# Altium footprint library Connectors.PcbLib: 147 footprints (part 2 of 10)
Each footprint in its own frame and in the unit in brackets; x right, y up, seen from the top. Pads: shape width x height; smd on the part's side, far side on the other; paste and mask are expansions set on the pad; w line width, h text height; cw(c..) or ccw(c..) is an arc to the next point about the centre after c.
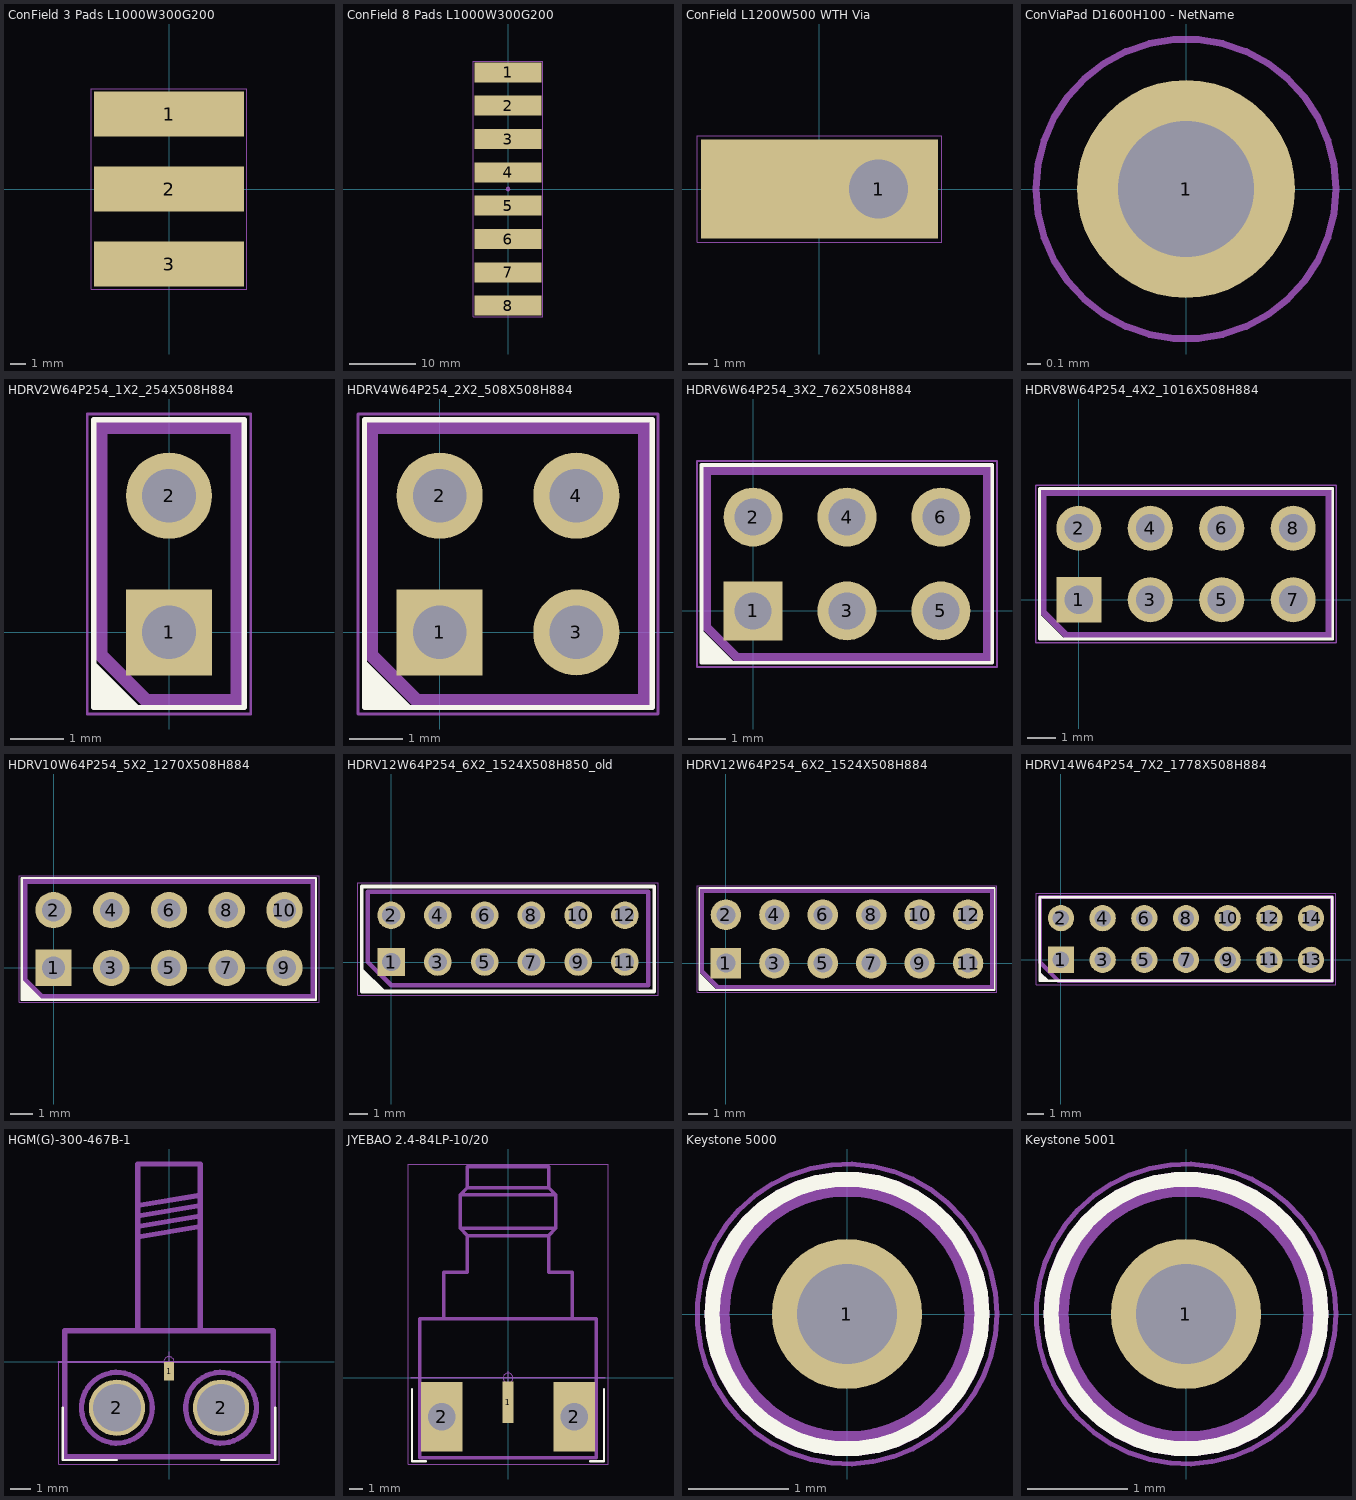
[diagram p1: the footprints below, top view; thin cyan lines are the x and y axes]

## ConField 3 Pads L1000W300G200 [mm] "Contact Field 3 Pads 10mm x 3 mm gap 2 mm"
pads (3):
  rect 10x3 smd paste-2539.97: 1(0,5) 2(0,0) 3(0,-5)
Top Overlay:
  text ".Net2" at 5.5,-0.474 h1.5
  text ".Net1" at 5.5,4.526 h1.5
  text ".Net3" at 5.5,-5.474 h1.5
Top Courtyard:
  circle w0.05: c0,0 r0.25
  lines w0.05: -0.35,0 0.35,0 ; 0,-0.35 0,0.35 ; -5.2,-6.7 -5.2,6.7 5.2,6.7 5.2,-6.7 -5.2,-6.7

## ConField 8 Pads L1000W300G200 [mm] "Contact Field 8 Pads 10mm x 3 mm gap 2 mm"
pads (8):
  rect 10x3 smd paste-2539.97: 1(0,17.5) 2(0,12.5) 3(0,7.5) 4(0,2.5) 5(0,-2.5) 6(0,-7.5) 7(0,-12.5) 8(0,-17.5)
Top Overlay:
  text ".Net5" at 5.7,-3.13 h2
  text ".Net6" at 5.7,-8.132 h2
  text ".Net7" at 5.7,-13.13 h2
  text ".Net8" at 5.7,-18.132 h2
  text ".Net4" at 5.7,1.87 h2
  text ".Net2" at 5.7,11.867 h2
  text ".Net1" at 5.7,16.867 h2
  text ".Net3" at 5.7,6.868 h2
Top Courtyard:
  circle w0.05: c0,0 r0.25
  lines w0.05: -0.35,0 0.35,0 ; 0,-0.35 0,0.35 ; -5.2,-19.2 -5.2,19.2 5.2,19.2 5.2,-19.2 -5.2,-19.2

## ConField L1200W500 WTH Via [mm] "Contact Field Pad with Via 12mm x 5 mm x via 3 mm"
pads (1):
  rect 12x5 hole 3 copper offset -3,0 paste-2539.97: 1(3,0)
Top Overlay:
  text ".Net1" at -9.337,-0.485 h1.5
Top Courtyard:
  circle w0.05: c0,0 r0.25
  lines w0.05: -0.35,0 0.35,0 ; 0,-0.35 0,0.35 ; -6.2,-2.7 -6.2,2.7 6.2,2.7 6.2,-2.7 -6.2,-2.7

## ConViaPad D1600H100 - NetName [mm] "Contact Via Pad Diameter 1.6 mm Via 1 mm with Netname"
pads (1):
  round 1.6 hole 1 paste-2539.97: 1(0,0)
Top Overlay:
  text ".Net1" at -4.237,-0.485 h1.5
Top Courtyard:
  circle w0.05: c0,0 r1.1
  circle w0.05: c0,0 r0.25
  lines w0.05: -0.35,0 0.35,0 ; 0,-0.35 0,0.35

## HDRV2W64P254_1X2_254X508H884 [mm] "Header, Vertical, 2.54 mm pitch; 0.64 mm lead width, 2 pins, 2 rows, 1 pin per row, 2.54 mm L X 5.08 mm W X 8.84 mm H body"
height 8.84
pads (2):
  rect 1.6x1.6 hole 1 paste-2539.97: 1(0,0)
  round 1.6 hole 1 paste-2539.97: 2(0,2.54)
Top Overlay:
  region: -1.4,-1.4 -1.4,-0.53 -0.53,-1.4
  lines w0.1: -1.4,-1.4 -1.4,3.95 1.4,3.95 1.4,-1.4 -1.4,-1.4
Top Assembly:
  lines w0.25: -1.27,-0.423 -0.423,-1.27 1.27,-1.27 1.27,3.81 -1.27,3.81 -1.27,-0.423
  text ".Designator" at -1.8,-0.7 h1.5
Top Courtyard:
  circle w0.05: c0,0 r0.25
  lines w0.05: -0.35,0 0.35,0 ; 0,-0.35 0,0.35 ; -1.52,-1.52 -1.52,4.06 1.52,4.06 1.52,-1.52 -1.52,-1.52
3D body "HDRV2W64P254_1X2_254X508H884.STEP": height 8.84, standoff -2.3, extent -1.27,-1.27 1.27,3.81

## HDRV4W64P254_2X2_508X508H884 [mm] "Header, Vertical, 2.54 mm pitch; 0.64 mm lead width, 4 pins, 2 rows, 2 pins per row, 5.08 mm L X 5.08 mm W X 8.84 mm H body"
height 8.84
pads (4):
  rect 1.6x1.6 hole 1 paste-2539.97: 1(0,0)
  round 1.6 hole 1 paste-2539.97: 2(0,2.54) 3(2.54,0) 4(2.54,2.54)
Top Overlay:
  region: -1.4,-0.5 -0.5,-1.4 -1.4,-1.4
  lines w0.1: -1.4,-1.4 -1.4,3.95 3.95,3.95 3.95,-1.4 -1.4,-1.4
Top Assembly:
  lines w0.25: -1.27,-0.43 -0.43,-1.27 3.81,-1.27 3.81,3.81 -1.27,3.81 -1.27,-0.43
  text ".Designator" at -0.9,0.8 h1.5
Top Courtyard:
  circle w0.05: c0,0 r0.25
  lines w0.05: -0.35,0 0.35,0 ; 0,-0.35 0,0.35 ; -1.52,-1.52 -1.52,4.06 4.06,4.06 4.06,-1.52 -1.52,-1.52
3D body "HDRV4W64P254_2X2_508X508H884.STEP": height 8.84, standoff -2.3, extent -1.27,-1.27 3.81,3.81

## HDRV6W64P254_3X2_762X508H884 [mm] "Header, Vertical, 2.54 mm pitch; 0.64 mm lead width, 6 pins, 2 rows, 3 pins per row, 7.62 mm L X 5.08 mm W X 8.84 mm H body"
height 8.84
pads (6):
  rect 1.6x1.6 hole 1 paste-2539.97: 1(0,0)
  round 1.6 hole 1 paste-2539.97: 2(0,2.54) 3(2.54,0) 4(2.54,2.54) 5(5.08,0) 6(5.08,2.54)
Top Overlay:
  region: -1.4,-0.5 -0.5,-1.4 -1.4,-1.4
  lines w0.1: -1.4,-1.4 -1.4,3.95 6.475,3.95 6.475,-1.4 -1.4,-1.4
Top Assembly:
  lines w0.25: -1.27,-0.43 -0.43,-1.27 6.35,-1.27 6.35,3.81 -1.27,3.81 -1.27,-0.43
  text ".Designator" at -0.9,0.9 h1.5
Top Courtyard:
  circle w0.05: c0,0 r0.25
  lines w0.05: -0.35,0 0.35,0 ; 0,-0.35 0,0.35 ; -1.52,-1.52 -1.52,4.06 6.6,4.06 6.6,-1.52 -1.52,-1.52
3D body "HDRV6W64P254_3X2_762X508H884.STEP": height 8.84, standoff -2.3, extent -1.27,-1.27 6.35,3.81

## HDRV8W64P254_4X2_1016X508H884 [mm] "Header, Vertical, 2.54 mm pitch; 0.64 mm lead width, 8 pins, 2 rows, 4 pins per row, 10.16 mm L X 5.08 mm W X 8.84 mm H body"
height 8.84
pads (8):
  rect 1.6x1.6 hole 1 paste-2539.97: 1(0,0)
  round 1.6 hole 1 paste-2539.97: 2(0,2.54) 3(2.54,0) 4(2.54,2.54) 5(5.08,0) 6(5.08,2.54) 7(7.62,0) 8(7.62,2.54)
Top Overlay:
  region: -1.4,-0.5 -0.5,-1.4 -1.4,-1.4
  lines w0.1: -1.4,-1.4 9.025,-1.4 9.025,3.95 -1.4,3.95 -1.4,-1.4
Top Assembly:
  lines w0.25: -1.27,-0.43 -1.27,3.81 8.89,3.81 8.89,-1.27 -0.43,-1.27 -1.27,-0.43
  text ".Designator" at -0.4,0.8 h1.5
Top Courtyard:
  circle w0.05: c0,0 r0.25
  lines w0.05: -0.35,0 0.35,0 ; 0,-0.35 0,0.35 ; -1.52,-1.52 9.14,-1.52 9.14,4.06 -1.52,4.06 -1.52,-1.52
3D body "HDRV8W64P254_4X2_1016X508H884.STEP": height 8.84, standoff -2.3, extent -1.27,-1.27 8.89,3.81

## HDRV10W64P254_5X2_1270X508H884 [mm] "Header, Vertical, 2.54 mm pitch; 0.64 mm lead width, 10 pins, 2 rows, 5 pins per row, 12.70 mm L X 5.08 mm W X 8.84 mm H body"
height 8.84
pads (10):
  rect 1.6x1.6 hole 1 paste-2539.97: 1(0,0)
  round 1.6 hole 1 paste-2539.97: 2(0,2.54) 3(2.54,0) 4(2.54,2.54) 5(5.08,0) 6(5.08,2.54) 7(7.62,0) 8(7.62,2.54) 9(10.16,0) 10(10.16,2.54)
Top Overlay:
  region: -1.4,-0.5 -0.5,-1.4 -1.4,-1.4
  lines w0.1: -1.4,-1.4 11.55,-1.4 11.55,3.95 -1.4,3.95 -1.4,-1.4
Top Assembly:
  lines w0.25: -1.27,-0.53 -1.27,3.81 11.43,3.81 11.43,-1.27 -0.53,-1.27 -1.27,-0.53
  text ".Designator" at 1.6,0.7 h1.5
Top Courtyard:
  circle w0.05: c0,0 r0.25
  lines w0.05: -0.35,0 0.35,0 ; 0,-0.35 0,0.35 ; -1.52,-1.52 11.68,-1.52 11.68,4.06 -1.52,4.06 -1.52,-1.52
3D body "HDRV10W64P254_5X2_1270X508H884.STEP": height 8.84, standoff -2.3, extent -1.27,-1.27 11.43,3.81

## HDRV12W64P254_6X2_1524X508H850_old [mm] "Header, Vertical, 2.54 mm pitch; 0.64 mm lead width, 12 pins, 2 rows, 6 pins per row, 15.24 mm L X 5.08 mm W X 8.50 mm H body"
height 8.5
pads (12):
  rect 1.5x1.5 hole 1 paste-2539.97: 1(0,0)
  round 1.5 hole 1 paste-2539.97: 2(0,2.54) 3(2.54,0) 4(2.54,2.54) 5(5.08,0) 6(5.08,2.54) 7(7.62,0) 8(7.62,2.54) 9(10.16,0) 10(10.16,2.54) 11(12.7,0) 12(12.7,2.54)
Top Overlay:
  region: -1.6,-0.3 -0.3,-1.6 -1.6,-1.6
  lines w0.2: -1.6,-1.6 -1.6,4.1 14.3,4.1 14.3,-1.6 -1.6,-1.6
Top Assembly:
  lines w0.25: -1.27,0 0,-1.27 13.97,-1.27 13.97,3.81 -1.27,3.81 -1.27,0
  text ".Designator" at 2.1,0.8 h1.5
Top Courtyard:
  circle w0.05: c0,0 r0.25
  lines w0.05: -0.35,0 0.35,0 ; 0,-0.35 0,0.35 ; -1.8,-1.8 -1.8,4.3 14.5,4.3 14.5,-1.8 -1.8,-1.8
3D body "HDRV12W64P254_6X2_1524X508H850.STEP": height 8.5, standoff -2.32, extent -1.27,-1.27 13.97,3.81

## HDRV12W64P254_6X2_1524X508H884 [mm] "Header, Vertical, 2.54 mm pitch; 0.64 mm lead width, 12 pins, 2 rows, 6 pins per row, 15.24 mm L X 5.08 mm W X 8.84 mm H body"
height 8.84
pads (12):
  rect 1.6x1.6 hole 1 paste-2539.97: 1(0,0)
  round 1.6 hole 1 paste-2539.97: 2(0,2.54) 3(2.54,0) 4(2.54,2.54) 5(5.08,0) 6(5.08,2.54) 7(7.62,0) 8(7.62,2.54) 9(10.16,0) 10(10.16,2.54) 11(12.7,0) 12(12.7,2.54)
Top Overlay:
  region: -1.403,-0.496 -0.503,-1.396 -1.4,-1.4
  lines w0.1: -1.4,-1.4 -1.4,3.95 14.1,3.95 14.1,-1.4 -1.4,-1.4
Top Assembly:
  lines w0.25: -1.27,-0.43 -0.43,-1.27 13.97,-1.27 13.97,3.81 -1.27,3.81 -1.27,-0.43
  text ".Designator" at 2.4,0.8 h1.5
Top Courtyard:
  circle w0.05: c0,0 r0.25
  lines w0.05: -0.35,0 0.35,0 ; 0,-0.35 0,0.35 ; -1.52,-1.52 -1.52,4.06 14.22,4.06 14.22,-1.52 -1.52,-1.52
3D body "HDRV12W64P254_6X2_1524X508H884.STEP": height 8.84, standoff -2.3, extent -1.27,-1.27 13.97,3.81

## HDRV14W64P254_7X2_1778X508H884 [mm] "Header, Vertical, 2.54 mm pitch; 0.64 mm lead width, 14 pins, 2 rows, 7 pins per row, 17.78 mm L X 5.08 mm W X 8.84 mm H body"
height 8.84
pads (14):
  rect 1.6x1.6 hole 1 paste-2539.97: 1(0,0)
  round 1.6 hole 1 paste-2539.97: 2(0,2.54) 3(2.54,0) 4(2.54,2.54) 5(5.08,0) 6(5.08,2.54) 7(7.62,0) 8(7.62,2.54) 9(10.16,0) 10(10.16,2.54) 11(12.7,0) 12(12.7,2.54) 13(15.24,0) 14(15.24,2.54)
Top Overlay:
  region: -1.282,-0.718 -0.722,-1.278 -1.28,-1.28
  lines w0.15: -1.28,-1.28 16.52,-1.28 16.52,3.82 -1.28,3.82 -1.28,-1.28
Top Assembly:
  lines w0.25: -1.28,-0.148 -1.28,3.82 16.52,3.82 16.52,-1.28 -0.148,-1.28 -1.28,-0.148
  text ".Designator" at 0,0 h1.5
Top Courtyard:
  circle w0.05: c0,0 r0.25
  lines w0.05: -0.35,0 0.35,0 ; 0,-0.35 0,0.35 ; -1.52,-1.52 16.76,-1.52 16.76,4.06 -1.52,4.06 -1.52,-1.52
3D body "HDRV14W64P254_7X2_1778X508H884.STEP": height 8.84, standoff -2, extent -1.27,-1.27 16.51,3.81

## HGM(G)-300-467B-1 [mm] "Hirose edge SMA 2.92 Press"
height 4
pads (3):
  rect 0.5x0.9 smd: 1(0,-0.45)
  round 2.7 hole 2.3: 2(-2.5,-2.2) 2(2.5,-2.2)
Top Overlay:
  lines w0.1: -5.1,-2.2 -5.1,-4.7 -2.5,-4.7 ; 2.5,-4.7 5.1,-4.7 5.1,-2.2
Bottom Overlay:
  lines w0.1: -5.1,-2.2 -5.1,-4.7 -2.5,-4.7 ; 2.5,-4.7 5.1,-4.7 5.1,-2.2
Top Assembly:
  circle w0.25: c-2.5,-2.2 r1.7
  circle w0.25: c2.5,-2.2 r1.7
  lines w0.25: -1.5,1.5 -1.5,9.5 1.5,9.5 1.5,1.5 ; -1.5,6 1.5,6.5 ; -1.5,6.5 1.5,7 ; -1.5,7 1.5,7.5 ; -1.5,7.5 1.5,8 ; -5,-4.55 -5,1.5 5,1.5 5,-4.55 -5,-4.55
  text ".Designator" at -3.2,0.1 h1.5
Board:
  lines w0.1: -5.3,0 5.3,0
Top Courtyard:
  circle w0.05: c0,0 r0.25
  lines w0.05: -0.5,0 0.5,0 ; 0,-0.5 0,0.5 ; -5.3,-4.9 -5.3,0 5.3,0 5.3,-4.9 -5.3,-4.9
Bottom Courtyard:
  circle w0.05: c0,0 r0.25
  lines w0.05: -0.5,0 0.5,0 ; 0,-0.5 0,0.5 ; -5.3,-4.9 -5.3,0 5.3,0 5.3,-4.9 -5.3,-4.9
3D body "HRM(G)-300-467B-1.stp": height 4, standoff -4, extent -5,-4.55 5,9.5

## JYEBAO 2.4-84LP-10/20 [mm] "2.4mm Jack End Launch, 0.25 pin"
height 5
pads (3):
  rect 0.8x3 smd paste-2539.97: 1(0,-1.75)
  rect 3x5 / inner round 2.4 / far side rect 3x5 hole 2 paste-2539.97: 2(-4.765,-2.79) 2(4.765,-2.79)
Top Overlay:
  lines w0.15: -6.9,-0.795 -6.9,-5.995 -5.9,-5.995 ; 5.9,-5.995 6.9,-5.995 6.9,-0.795
Bottom Overlay:
  lines w0.15: -6.9,-0.795 -6.9,-5.995 -5.9,-5.995 ; 5.9,-5.995 6.9,-5.995 6.9,-0.795
Top Assembly:
  lines w0.25: -4.625,4.255 -4.625,7.605 -2.92,7.605 -2.92,10.255 ; 4.625,4.255 4.625,7.605 2.92,7.605 2.92,10.255 ; -3.45,10.785 -3.45,13.175 ; -3.45,10.785 -2.92,10.255 ; -3.45,10.785 3.45,10.785 ; -3.45,13.175 -2.92,13.705 ; -3.45,13.175 3.45,13.175 ; -2.92,10.255 2.92,10.255 ; -2.92,13.705 -2.92,15.205 2.92,15.205 2.92,13.705 ; -2.92,13.705 2.92,13.705 ; 2.92,10.255 3.45,10.785 ; 2.92,13.705 3.45,13.175 ; 3.45,10.785 3.45,13.175 ; -6.35,-5.74 -6.35,4.255 6.35,4.255 6.35,-5.74 -6.35,-5.74
  text ".Designator" at -3.378,-0.339 h1.5
Bottom Assembly:
  lines w0.25: -4.625,4.255 -4.625,7.605 -2.92,7.605 -2.92,10.255 ; 4.625,4.255 4.625,7.605 2.92,7.605 2.92,10.255 ; -3.45,10.785 -3.45,13.175 ; -3.45,10.785 -2.92,10.255 ; -3.45,10.785 3.45,10.785 ; -3.45,13.175 -2.92,13.705 ; -3.45,13.175 3.45,13.175 ; -2.92,10.255 2.92,10.255 ; -2.92,13.705 -2.92,15.205 2.92,15.205 2.92,13.705 ; -2.92,13.705 2.92,13.705 ; 2.92,10.255 3.45,10.785 ; 2.92,13.705 3.45,13.175 ; 3.45,10.785 3.45,13.175 ; -6.35,-5.74 -6.35,4.255 6.35,4.255 6.35,-5.74 -6.35,-5.74
Board:
  lines w0.1: -7,0 7,0
Top Courtyard:
  circle w0.05: c0,0 r0.35
  lines w0.05: -0.5,0 0.5,0 ; 0,-0.5 0,0.5 ; -7.2,-6.195 7.2,-6.195 7.2,15.405 -7.2,15.405 -7.2,-6.195
Bottom Courtyard:
  circle w0.05: c0,0 r0.35
  lines w0.05: -0.5,0 0.5,0 ; 0,-0.5 0,0.5 ; -7.2,-6.195 7.2,-6.195 7.2,15.405 -7.2,15.405 -7.2,-6.195
3D body "upload_2.4-84LP-10-20.stp": height 5.01, standoff -5.29, extent -6.615,-5.74 6.614,15.205

## Keystone 5000 [mm] "Thru Hole Mount Test Point, Miniature, .010 (.25) ? .020 (.51) Phosphor Bronze, Silver Plate, Nylon 46, UL Rated 94V-0, .040 (1.0) Diameter, Red"
height 4.6
pads (1):
  round 1.5 hole 1: 1(0,0)
Top Overlay:
  circle w0.15: c0,0 r1.35
Top Assembly:
  circle w0.25: c0,0 r1.3
  text ".Designator" at -3.378,-0.339 h1.5
Top Courtyard:
  circle w0.05: c0,0 r0.35
  circle w0.05: c0,0 r1.5
  lines w0.05: -0.5,0 0.5,0 ; 0,-0.5 0,0.5
3D body "5000--3DModel-STEP-630548.STEP": height 4.58, standoff -3.04, extent -1.261,-1.27 1.261,1.27

## Keystone 5001 [mm] "Thru Hole Mount Test Point, Miniature, .010 (.25) ? .020 (.51) Phosphor Bronze, Silver Plate, Nylon 46, UL Rated 94V-0, .040 (1.0) Diameter, Black"
height 4.6
pads (1):
  round 1.5 hole 1: 1(0,0)
Top Overlay:
  circle w0.15: c0,0 r1.35
Top Assembly:
  circle w0.25: c0,0 r1.3
  text ".Designator" at -3.378,-0.339 h1.5
Top Courtyard:
  circle w0.05: c0,0 r1.5
  circle w0.05: c0,0 r0.35
  lines w0.05: -0.5,0 0.5,0 ; 0,-0.5 0,0.5
3D body "5001--3DModel-STEP-630548.STEP": height 4.58, standoff -3.04, extent -1.261,-1.27 1.261,1.27